# Altium footprint library WISP_AD10.PcbLib: 95 footprints (part 6 of 6)
Each footprint in its own frame and in the unit in brackets; x right, y up, seen from the top. Pads: shape width x height; smd on the part's side, far side on the other; paste and mask are expansions set on the pad; w line width, h text height; cw(c..) or ccw(c..) is an arc to the next point about the centre after c.
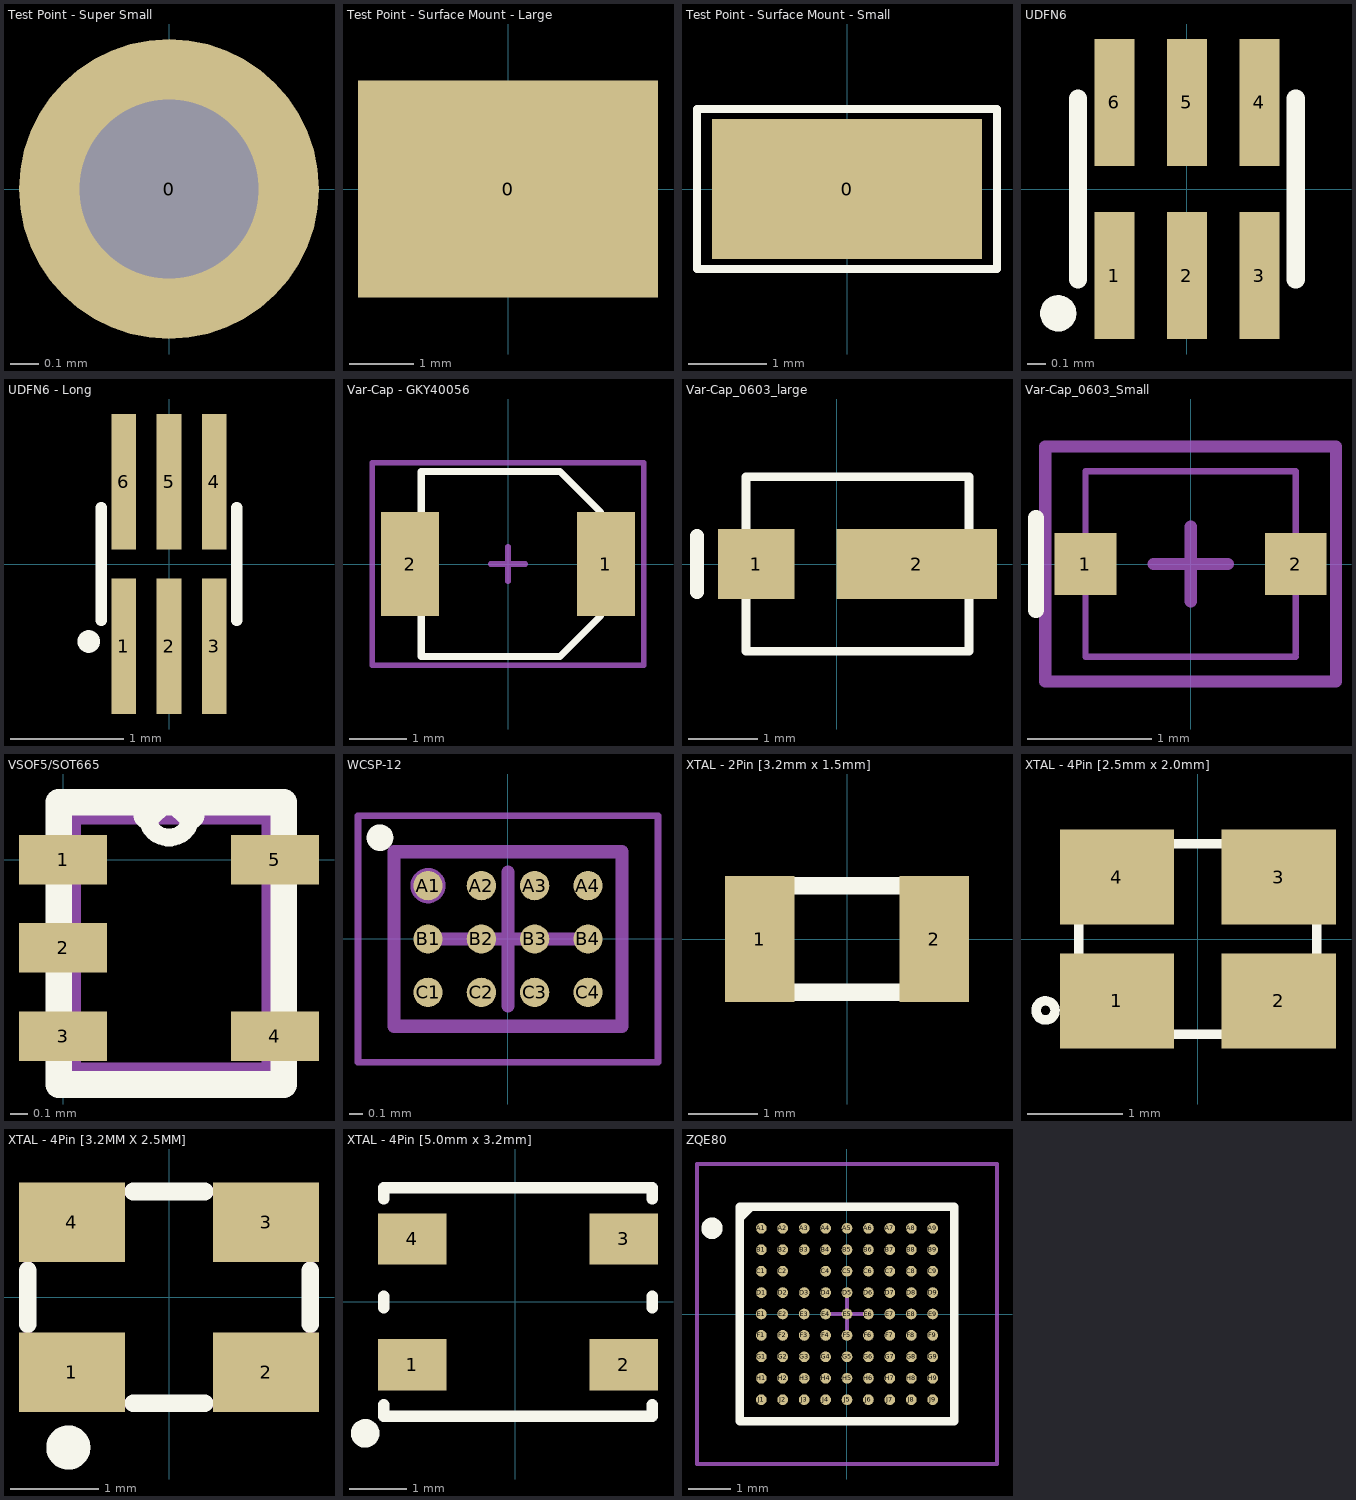
[diagram p5: the footprints below, top view; thin cyan lines are the x and y axes]

## Test Point - Super Small [mil] "25 - 42"
pads (1):
  round 42 hole 25: 0(0,0)

## Test Point - Surface Mount - Large [mm] "Test Point, Surface Mount Large , example DK: 5016KCT-ND"
pads (1):
  rect 4.7x3.4 smd: 0(0,0)
Top Overlay:
  circle w0.127: c0,0 r1.27

## Test Point - Surface Mount - Small [mil] "Test Point, Surface Mount Large , example DK: 5015KCT-ND"
pads (1):
  rect 135x70 smd: 0(0,0)
Top Overlay:
  lines w3.94: -75,-40 75,-40 75,40 -75,40 -75,-40

## UDFN6 [mm] "UDFN6 - Level Shifter -  NLSV1T244"
height 0.5
pads (6):
  rect 0.22x0.7 smd: 1(-0.4,-0.477) 2(0,-0.477) 3(0.4,-0.477) 4(0.4,0.477) 5(0,0.477) 6(-0.4,0.477)
Top Overlay:
  circle w0.1: c-0.71,-0.686 r0.05
  lines w0.1: -0.6,-0.5 -0.6,0.5 ; 0.6,-0.5 0.6,0.5

## UDFN6 - Long [mm] "UDFN6 - Level Shifter -  NLSV1T244"
height 0.5
pads (6):
  rect 0.22x1.2 smd: 1(-0.4,-0.727) 2(0,-0.727) 3(0.4,-0.727) 4(0.4,0.727) 5(0,0.727) 6(-0.4,0.727)
Top Overlay:
  circle w0.1: c-0.71,-0.686 r0.05
  lines w0.1: -0.6,-0.5 -0.6,0.5 ; 0.6,-0.5 0.6,0.5

## Var-Cap - GKY40056 [mm] "CAP TRIMMER 8-40PF 50V SMD - GKY40056 - Sprague-Goodman"
height 1.4
pads (2):
  rect 1x1.8 smd: 1(1.695,0) 2(-1.695,0)
Top Overlay:
  lines w0.127: -1.5,-1.6 0.9,-1.6 1.6,-0.9 1.6,0.9 0.9,1.6 -1.5,1.6 -1.5,-1.6
Mechanical 13:
  lines w0.051: -1.5,-1.6 0.85,-1.6 0.9,-1.6 1.6,-0.9 1.6,0.9 0.9,1.6 0.85,1.6 -1.5,1.6 -1.5,-1.6
  text ".Designator" at -0.925,0.45 h0.51
Mechanical 15:
  lines w0.1: -0.3,0 0.3,0 ; 0,-0.3 0,0.3 ; -2.35,-1.75 2.35,-1.75 2.35,1.75 -2.35,1.75 -2.35,-1.75
3D body: height 1.4, standoff 0, extent -1.5,-1.6 1.6,1.6

## Var-Cap_0603_large [mm] "Var-Cap 603 Compatible, DK: 490-2009 & SG2026CT"
height 1.3
pads (2):
  rect 1.1x1 smd: 1(-1.15,0)
  rect 2.3x1 smd: 2(1.15,0)
Top Overlay:
  lines w0.127: -1.3,-1.25 1.9,-1.25 1.9,1.25 -1.3,1.25 -1.3,-1.25
  lines w0.2: -2,-0.4 -2,0.4

## Var-Cap_0603_Small [mm] "Var-Cap 0603 Compatible High-Q, DK#490-2011-1-ND"
height 0.6
pads (2):
  rect 0.5x0.5 smd: 1(-0.85,0) 2(0.85,0)
Top Overlay:
  lines w0.127: -1.25,-0.375 -1.25,0.375
Mechanical 13:
  lines w0.051: 0.85,-0.75 -0.85,-0.75 -0.85,0.75 0.85,0.75 0.85,-0.725
Mechanical 15:
  lines w0.1: -0.3,0 0.3,0 ; 0,-0.3 0,0.3 ; -1.175,-0.95 -1.175,0.95 1.175,0.95 1.175,-0.95 -1.175,-0.95
3D body: height 0.8, standoff 0, extent -0.85,-0.75 0.85,0.75

## VSOF5/SOT665 [mm] "BU49xxFVE"
height 0.6
pads (5):
  rect 0.5x0.28 smd: 1(0,0) 2(0,-0.5) 3(0,-1) 4(1.2,-1) 5(1.2,0)
Top Overlay:
  lines w0.1: 0.475,0.25 ccw(c0.6,0.25) 0.725,0.25
  lines w0.152: 0.475,0.25 0.55,0.325 1.25,0.325 1.25,-1.275 -0.025,-1.275 -0.025,0.325 0.65,0.325 0.725,0.25
Mechanical 13:
  lines w0.152: 0.025,-1.225 0.025,0.275 1.2,0.275 1.2,-1.225 0.025,-1.225
  text ".designator" at 0.325,-0.575 h0.32
3D body: height 0.6, standoff 0.05, extent 0.025,-1.225 1.2,0.275

## WCSP-12 [mm] "WCSP-12(BGA), 12-Leads, Body 1.71x1.31mmx0.55mm, Pitch 0.40mm"
height 0.55
pads (12):
  round 0.22 smd: A1(-0.6,0.4) A2(-0.2,0.4) A3(0.2,0.4) A4(0.6,0.4) B1(-0.6,0) B2(-0.2,0) B3(0.2,0) B4(0.6,0) C1(-0.6,-0.4) C2(-0.2,-0.4) C3(0.2,-0.4) C4(0.6,-0.4)
Top Overlay:
  circle w0.1: c-0.96,0.76 r0.05
Mechanical 13:
  circle w0.152: c-0.6,0.4 r0.056
  lines w0.1: -0.855,-0.655 -0.855,0.655 0.855,0.655 0.855,-0.655 -0.855,-0.655
  text ".designator" at -0.625,-0.05 h0.52
Mechanical 15:
  lines w0.05: -1.125,-0.925 -1.125,0.925 1.125,0.925 1.125,-0.925 -1.125,-0.925
  lines w0.1: -0.5,0 0.5,0 ; 0,-0.5 0,0.5
3D body: height 0.55, standoff 0.18, extent -0.855,-0.655 0.855,0.655

## XTAL - 2Pin [3.2mm x 1.5mm] [mm] "FC-135   crystal - epson eletronics"
height 0.8
pads (2):
  rect 1x1.8 smd: 1(-1.25,0) 2(1.25,0)
Top Overlay:
  lines w0.254: -0.762,-0.762 0.762,-0.762 ; -0.762,0.762 0.762,0.762
Mechanical 13:
  lines w0.1: -1.6,-0.75 -1.6,0.75 1.6,0.75 1.6,-0.75 -1.6,-0.75
  text ".Designator" at -1.35,-0.2 h0.51
3D body: height 0.8, standoff 0, extent -1.6,-0.75 1.6,0.75

## XTAL - 4Pin [2.5mm x 2.0mm] [mm] "CRYSTAL, 2.5mm x 2.0mm,  4Pin"
height 0.85
pads (4):
  rect 1.2x1 smd: 1(-0.85,-0.65) 2(0.85,-0.65) 3(0.85,0.65) 4(-0.85,0.65)
Top Overlay:
  circle w0.1: c-1.6,-0.75 r0.1
  lines w0.1: -1.25,-1 1.25,-1 1.25,1 -1.25,1 -1.25,-1

## XTAL - 4Pin [3.2MM X 2.5MM] [mm] "CRYSTAL, 3.2mm x 2.5mm,  4Pin"
height 1
pads (4):
  rect 1.2x0.9 smd: 1(-1.1,-0.85) 2(1.1,-0.85) 3(1.1,0.85) 4(-1.1,0.85)
Top Overlay:
  circle w0.25: c-1.141,-1.702 r0.125
  lines w0.2: -1.6,-0.305 -1.6,0.305 ; -0.406,-1.2 0.406,-1.2 ; -0.406,1.2 0.406,1.2 ; 1.6,-0.305 1.6,0.305
Mechanical 13:
  circle w0.1: c-1.1,-0.85 r0.057
  lines w0.1: -1.6,-1.2 -1.6,1.2 1.6,1.2 1.6,-1.2 -1.6,-1.2
  text ".Designator" at -1.4,-0.3 h0.76
3D body: height 1, standoff 0, extent -1.6,-1.2 1.6,1.2

## XTAL - 4Pin [5.0mm x 3.2mm] [mm] "CRYSTAL, 5.0mm x 3.2mm,  4Pin"
pads (4):
  rect 1.2x0.9 smd: 1(-1.8,-1.1) 2(1.9,-1.1) 3(1.9,1.1) 4(-1.8,1.1)
Top Overlay:
  circle w0.25: c-2.625,-2.3 r0.125
  lines w0.2: -2.3,-1.8 -2.3,-2 2.4,-2 2.4,-1.8 ; -2.3,-0.1 -2.3,0.1 ; -2.3,1.8 -2.3,2 2.4,2 2.4,1.8 ; 2.4,-0.1 2.4,0.1

## ZQE80 [mm] "BGA, 80-Leads, Body 5x5mm, Pitch 0.5mm"
height 1
pads (80):
  round 0.25 smd: A1(-2,2) A2(-1.5,2) A3(-1,2) A4(-0.5,2) A5(0,2) A6(0.5,2) A7(1,2) A8(1.5,2) A9(2,2) B1(-2,1.5) B2(-1.5,1.5) B3(-1,1.5) B4(-0.5,1.5) B5(0,1.5) B6(0.5,1.5) B7(1,1.5) B8(1.5,1.5) B9(2,1.5) C1(-2,1) C2(-1.5,1) C4(-0.5,1) C5(0,1) C6(0.5,1) C7(1,1) C8(1.5,1) C9(2,1) D1(-2,0.5) D2(-1.5,0.5) D3(-1,0.5) D4(-0.5,0.5) D5(0,0.5) D6(0.5,0.5) D7(1,0.5) D8(1.5,0.5) D9(2,0.5) E1(-2,0) E2(-1.5,0) E3(-1,0) E4(-0.5,0) E5(0,0) E6(0.5,0) E7(1,0) E8(1.5,0) E9(2,0) F1(-2,-0.5) F2(-1.5,-0.5) F3(-1,-0.5) F4(-0.5,-0.5) F5(0,-0.5) F6(0.5,-0.5) F7(1,-0.5) F8(1.5,-0.5) F9(2,-0.5) G1(-2,-1) G2(-1.5,-1) G3(-1,-1) G4(-0.5,-1) G5(0,-1) G6(0.5,-1) G7(1,-1) G8(1.5,-1) G9(2,-1) H1(-2,-1.5) H2(-1.5,-1.5) H3(-1,-1.5) H4(-0.5,-1.5) H5(0,-1.5) H6(0.5,-1.5) H7(1,-1.5) H8(1.5,-1.5) H9(2,-1.5) J1(-2,-2) J2(-1.5,-2) J3(-1,-2) J4(-0.5,-2) J5(0,-2) J6(0.5,-2) J7(1,-2) J8(1.5,-2) J9(2,-2)
Top Overlay:
  circle w0.25: c-3.15,2 r0.125
  region: -2.242,2.5 -2.5,2.242 -2.5,2.5
  lines w0.2: -2.5,2.242 -2.242,2.5 ; -2.5,-2.5 2.5,-2.5 2.5,2.5 -2.5,2.5 -2.5,-2.5
Mechanical 13:
  lines w0.1: -2.5,-2.5 2.5,-2.5 2.5,2.5 -2.5,2.5 -2.5,-2.5
Mechanical 15:
  lines w0.1: -0.5,0 0.5,0 ; 0,-0.5 0,0.5 ; -3.5,-3.5 3.5,-3.5 3.5,3.5 -3.5,3.5 -3.5,-3.5
3D body: height 1, standoff 0, extent -2.5,-2.5 2.5,2.5